# Altium schematic symbol library CL05A105KO5NNNC.SchLib: 1 symbol
Pins are listed as number, name and electrical type; pins without a type are passive.

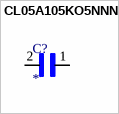
[diagram p0: symbol CL05A105KO5NNNC]

## CL05A105KO5NNNC
designator C?
1ÂµF Â±10% 16V Ceramic Capacitor X5R 0402 (1005 Metric); MP: CL05A105KO5NNNC; MF: Samsung Electro-Mechanics; Purchase-URL: https://pricing.snapeda.com/search/part/CL05A105KO5NNNC/?ref=eda; SnapEDA_Link: https://www.snapeda.com/parts/CL05A105KO5NNNC/Samsung%20Electro-Mechanics/view-part/3598151/?ref=snap; Availability: Good; Price: None; Check_prices: https://www.snapeda.com/parts/CL05A105KO5NNNC/Samsung%20Electro-Mechanics/view-part/3598151/?ref=eda; Package: 0402 Samsung; Value: *
footprint CAPC1005X55N
pins: 1, 2